# Altium footprint library ICs.PcbLib: 35 footprints (part 1 of 3)
Each footprint in its own frame and in the unit in brackets; x right, y up, seen from the top. Pads: shape width x height; smd on the part's side, far side on the other; paste and mask are expansions set on the pad; w line width, h text height; cw(c..) or ccw(c..) is an arc to the next point about the centre after c.
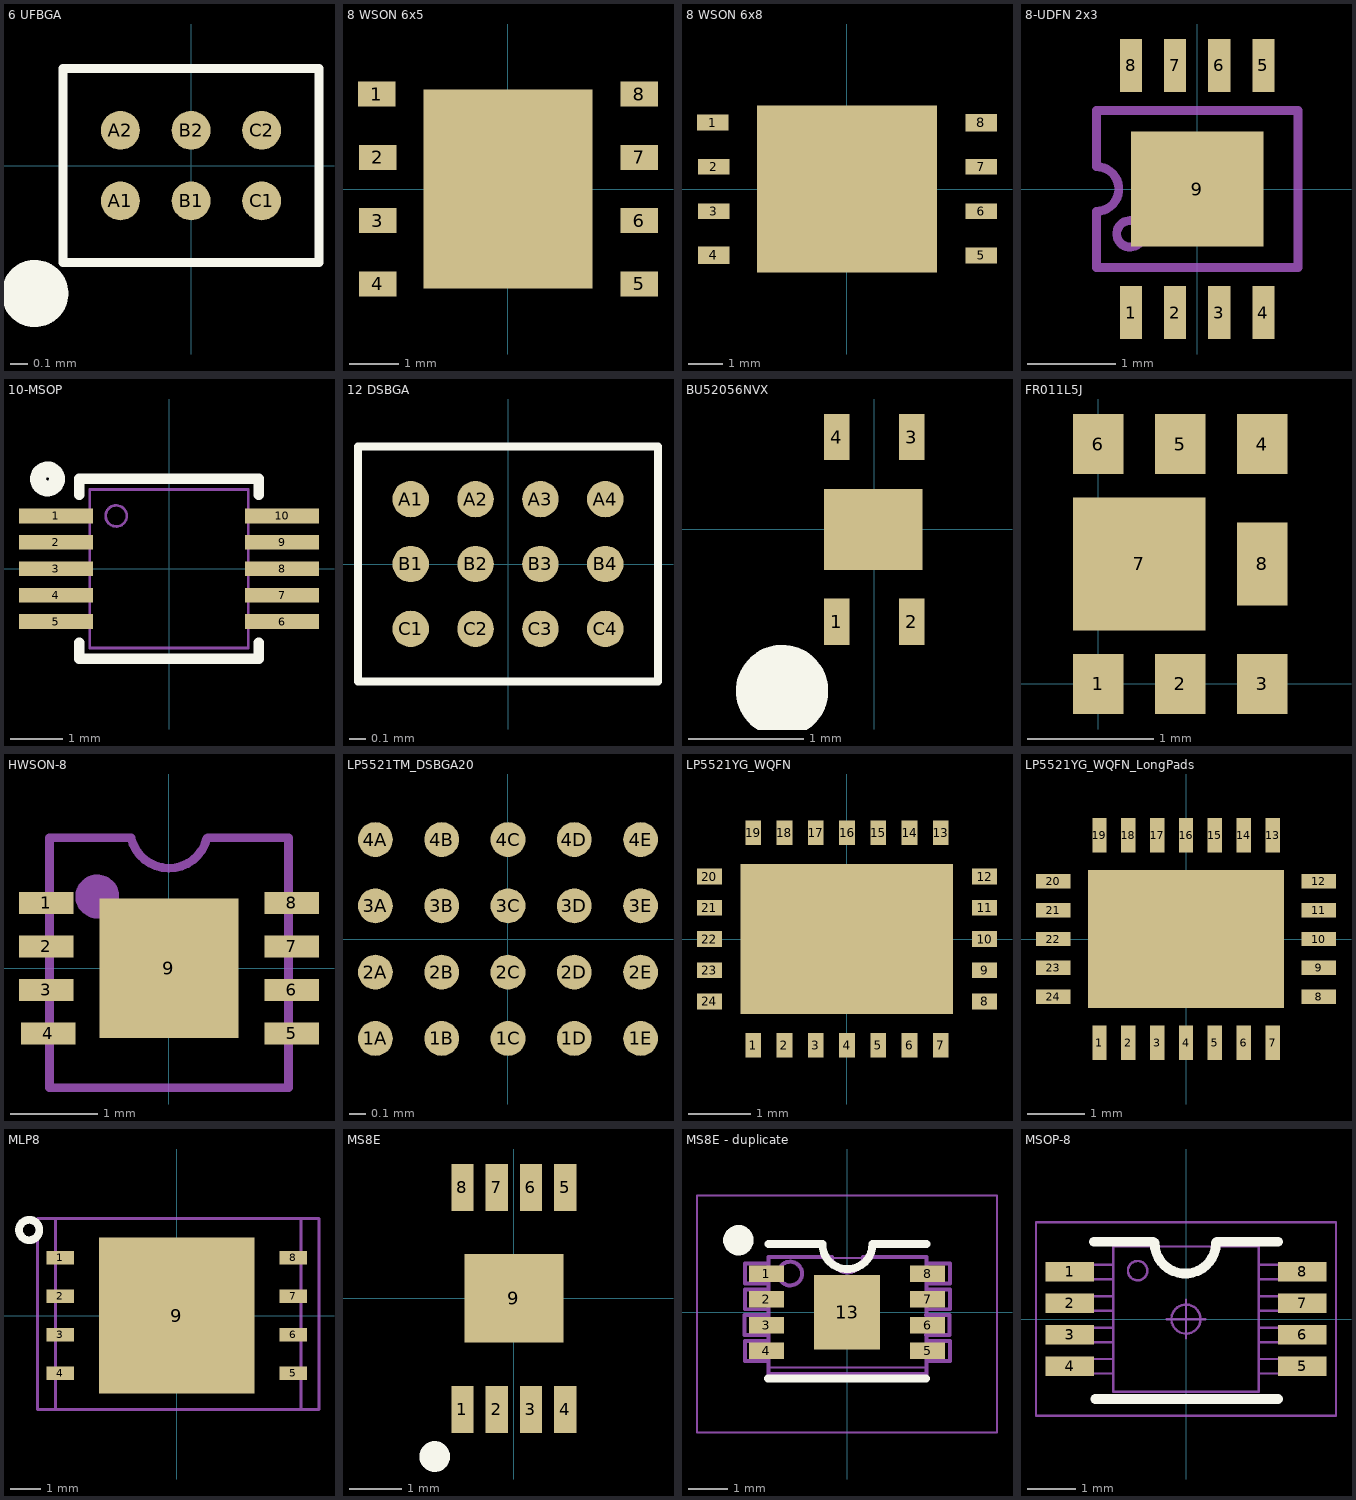
[diagram p0: the footprints below, top view; thin cyan lines are the x and y axes]

## 6 UFBGA [mm]
pads (6):
  round 0.22 smd mask+0.03: A1(-0.4,-0.2) A2(-0.4,0.2) B1(0,-0.2) B2(0,0.2) C1(0.4,-0.2) C2(0.4,0.2)
Top Overlay:
  circle w0.2: c-0.885,-0.725 r0.09
  lines w0.051: -0.725,-0.55 -0.725,0.55 0.725,0.55 0.725,-0.55 -0.725,-0.55
3D body: height 0.4, standoff 0, extent -0.725,-0.55 0.725,0.55

## 8 WSON 6x5 [mm]
pads (9):
  rect 0.75x0.5 smd mask+0.03: 1(-2.637,1.905) 2(-2.612,0.635) 3(-2.612,-0.635) 4(-2.612,-1.905) 5(2.638,-1.905) 6(2.638,-0.635) 7(2.638,0.635) 8(2.638,1.905)
  rect 3.4x4 smd mask+0.03: ""(0,0)
3D body: height 0.75, standoff 0, extent -3,-2.5 3,2.5

## 8 WSON 6x8 [mm]
pads (9):
  rect 0.9x0.45 smd mask+0.03: 1(-3.85,1.905) 2(-3.825,0.635) 3(-3.825,-0.635) 5(3.85,-1.905) 6(3.85,-0.635) 7(3.85,0.635)
  rect 0.9x0.5 smd mask+0.03: 4(-3.825,-1.905) 8(3.85,1.905)
  rect 5.15x4.8 smd mask+0.03: ""(0,0)
3D body: height 0.85, standoff 0, extent -4,-3 4,3

## 8-UDFN 2x3 [mm] "JEDEC MO-229"
pads (9):
  rect 0.25x0.6 smd mask+0.051: 1(-0.75,-1.4) 2(-0.25,-1.4) 3(0.25,-1.4) 4(0.75,-1.4) 5(0.75,1.4) 6(0.25,1.4) 7(-0.25,1.4) 8(-0.75,1.4)
  rect 1.5x1.3 smd mask+0.051: 9(0,0)
Mechanical 7:
  circle w0.1: c-0.762,-0.508 r0.15
  lines w0.1: -1.143,-0.889 1.143,-0.889 1.143,0.889 -1.143,0.889 -1.143,0.254 cw(c-1.143,0) -1.143,-0.254 -1.143,-0.889
  text ".Designator" at -0.508,-0.254 h1.5
3D body: height 0.55, standoff 0, extent -1,-1.5 1,1.5

## 10-MSOP [mm]
height 0.95
pads (10):
  rect 1.4x0.28 smd paste-0.025 mask+0.025: 1(-2.14,1) 2(-2.14,0.5) 3(-2.14,0) 4(-2.14,-0.5) 5(-2.14,-1) 6(2.14,-1) 7(2.14,-0.5) 8(2.14,0) 9(2.14,0.5) 10(2.14,1)
Top Overlay:
  circle w0.3: c-2.3,1.7 r0.18
  lines w0.2: -1.7,-1.4 -1.7,-1.7 1.7,-1.7 1.7,-1.4 ; -1.7,1.4 -1.7,1.7 1.7,1.7 1.7,1.4
Mechanical 7:
  circle w0.05: c-1,1 r0.2
  lines w0.05: -1.5,-1.1 -2.5,-1.1 -2.5,-0.9 -1.5,-0.9 ; -1.5,-0.6 -2.5,-0.6 -2.5,-0.4 -1.5,-0.4 ; -1.5,-0.1 -2.5,-0.1 -2.5,0.1 -1.5,0.1 ; -1.5,0.4 -2.5,0.4 -2.5,0.6 -1.5,0.6 ; -1.5,0.9 -2.5,0.9 -2.5,1.1 -1.5,1.1 ; 1.5,-1.1 2.5,-1.1 2.5,-0.9 1.5,-0.9 ; 1.5,-0.6 2.5,-0.6 2.5,-0.4 1.5,-0.4 ; 1.5,-0.1 2.5,-0.1 2.5,0.1 1.5,0.1 ; 1.5,0.4 2.5,0.4 2.5,0.6 1.5,0.6 ; 1.5,0.9 2.5,0.9 2.5,1.1 1.5,1.1 ; -1.5,-1.5 1.5,-1.5 1.5,1.5 -1.5,1.5 -1.5,-1.5
  text ".Designator" at -0.6,0.8 h1.8
3D body: height 0.95, standoff 0, extent -1.5,-1.5 1.5,1.5

## 12 DSBGA [mm]
pads (12):
  round 0.225 smd mask+0.03: A1(-0.6,0.4) A2(-0.2,0.4) A3(0.2,0.4) A4(0.6,0.4) B1(-0.6,0) B2(-0.2,0) B3(0.2,0) B4(0.6,0) C1(-0.6,-0.4) C2(-0.2,-0.4) C3(0.2,-0.4) C4(0.6,-0.4)
Top Overlay:
  lines w0.051: -0.925,-0.725 0.925,-0.725 0.925,0.725 -0.925,0.725 -0.925,-0.725
3D body: height 0.67, standoff 0, extent -0.825,-0.625 0.825,0.625

## BU52056NVX [mm] "Rohm hall effect sensor"
pads (5):
  rect 0.22x0.4 smd mask+0.051: 1(-0.325,-0.8) 2(0.325,-0.8) 3(0.325,0.8) 4(-0.325,0.8)
  rect 0.85x0.7 smd mask+0.051: ""(-0.01,0)
Top Overlay:
  circle w0.4: c-0.8,-1.4 r0.2
3D body: height 0.5, standoff 0, extent -0.6,-0.8 0.6,0.8

## FR011L5J [mm]
pads (8):
  rect 0.4x0.475 smd mask+0.051: 1(0,0) 2(0.65,0) 3(1.3,0) 4(1.3,1.9) 5(0.65,1.9) 6(0,1.9)
  rect 1.05x1.05 smd mask+0.051: 7(0.325,0.95)
  rect 0.4x0.66 smd mask+0.051: 8(1.3,0.95)
3D body: height 0.75, standoff 0, extent -0.35,-0.05 1.65,1.95

## HWSON-8 [mm] "SOT1069-2"
pads (9):
  rect 0.625x0.25 smd mask+0.051: 1(-1.412,0.75) 2(-1.412,0.25) 3(-1.412,-0.25) 4(-1.387,-0.75) 5(1.413,-0.75) 6(1.413,-0.25) 7(1.413,0.25) 8(1.413,0.75)
  rect 1.6x1.6 smd mask+0.051: 9(0,0)
Mechanical 7:
  circle w0.254: c-0.825,0.825 r0.125
  lines w0.1: 0.435,1.491 cw(c0,1.598) -0.437,1.5 -1.375,1.5 -1.375,-1.375 1.375,-1.375 1.375,1.5 0.444,1.5
  text ".Designator" at -0.375,0.95 h1.5
3D body: height 0.75, standoff 0, extent -1.5,-1 1.5,1

## LP5521TM_DSBGA20 [mm]
pads (20):
  round 0.21 smd mask+0.03: 1A(-0.8,-0.6) 1B(-0.4,-0.6) 1C(0,-0.6) 1D(0.4,-0.6) 1E(0.8,-0.6) 2A(-0.8,-0.2) 2B(-0.4,-0.2) 2C(0,-0.2) 2D(0.4,-0.2) 2E(0.8,-0.2) 3A(-0.8,0.2) 3B(-0.4,0.2) 3C(0,0.2) 3D(0.4,0.2) 3E(0.8,0.2) 4A(-0.8,0.6) 4B(-0.4,0.6) 4C(0,0.6) 4D(0.4,0.6) 4E(0.8,0.6)
3D body: height 0.6, standoff 0, extent -1.05,-0.85 1.05,0.85

## LP5521YG_WQFN [mm]
pads (25):
  rect 0.25x0.4 smd mask+0.03: 1(-1.5,-1.7) 2(-1,-1.7) 3(-0.5,-1.7) 4(0,-1.7) 5(0.5,-1.7) 6(1,-1.7) 7(1.5,-1.7) 13(1.5,1.7) 14(1,1.7) 15(0.5,1.7) 16(0,1.7) 17(-0.5,1.7) 18(-1,1.7) 19(-1.5,1.7)
  rect 0.4x0.25 smd mask+0.03: 8(2.2,-1) 9(2.2,-0.5) 10(2.2,0) 11(2.2,0.5) 12(2.2,1) 20(-2.2,1) 21(-2.2,0.5) 22(-2.2,0) 23(-2.2,-0.5) 24(-2.2,-1)
  rect 3.4x2.4 smd mask+0.03: ""(0,0)
3D body: height 0.8, standoff 0, extent -2.5,-2 2.5,2

## LP5521YG_WQFN_LongPads [mm]
pads (25):
  rect 0.25x0.6 smd mask+0.03: 1(-1.5,-1.8) 2(-1,-1.8) 3(-0.5,-1.8) 4(0,-1.8) 5(0.5,-1.8) 6(1,-1.8) 7(1.5,-1.8) 13(1.5,1.8) 14(1,1.8) 15(0.5,1.8) 16(0,1.8) 17(-0.5,1.8) 18(-1,1.8) 19(-1.5,1.8)
  rect 0.6x0.25 smd mask+0.03: 8(2.3,-1) 9(2.3,-0.5) 10(2.3,0) 11(2.3,0.5) 12(2.3,1) 20(-2.3,1) 21(-2.3,0.5) 22(-2.3,0) 23(-2.3,-0.5) 24(-2.3,-1)
  rect 3.4x2.4 smd mask+0.03: ""(0,0)
3D body: height 0.8, standoff 0, extent -2.5,-2 2.5,2

## MLP8 [mm]
pads (9):
  rect 0.9x0.45 smd: 1(-3.85,1.905) 2(-3.85,0.635) 3(-3.85,-0.635) 4(-3.85,-1.905) 5(3.85,-1.905) 6(3.85,-0.635) 7(3.85,0.635) 8(3.85,1.905)
  rect 5.15x5.15 smd: 9(0,0)
Top Overlay:
  circle w0.254: c-4.875,2.825 r0.336
Mechanical 2:
  lines w0.1: -4,-3.1 4.1,-3.1 4.1,3.2 -4,3.2 -4,-3.1
Mechanical 4:
  lines w0.1: -4.6,-3.1 4.7,-3.1 4.7,3.2 -4.6,3.2 -4.6,-3.1
Mechanical 7:
  lines w0.1: -4,-3.1 -4,3.2 4.1,3.2 4.1,-3.1 -4,-3.1
  text ".Designator" at 0.225,-4.175 h1.8
3D body: height 0.85, standoff 0, extent -4,-3 4,3

## MS8E [mm] "8 Lead Plastic MSOP Exposer Die Pad"
pads (9):
  rect 0.42x0.89 smd mask+0.03: 1(-0.975,-2.105) 2(-0.325,-2.105) 3(0.325,-2.105) 4(0.975,-2.105) 5(0.975,2.105) 6(0.325,2.105) 7(-0.325,2.105) 8(-0.975,2.105)
  rect 1.88x1.68 smd mask+0.03: 9(0,0)
Top Overlay:
  circle w0.3: c-1.5,-3 r0.141
3D body: height 1.1, standoff 0, extent -1.5,-1.5 1.5,1.5

## MS8E - duplicate [mm] "8-Lead Plastic MSOP"
pads (9):
  rect 0.889x0.42 smd mask+0.051: 1(-2.044,0.975) 2(-2.044,0.325) 3(-2.044,-0.325) 4(-2.044,-0.975) 5(2.044,-0.975) 6(2.044,-0.325) 7(2.044,0.325) 8(2.044,0.975)
  rect 1.68x1.88 smd mask+0.051: 13(0,0)
Top Overlay:
  circle w0.381: c-2.75,1.825 r0.195
  lines w0.2: -2,-1.675 2,-1.675 ; -1.989,1.725 -0.624,1.725 ccw(c0.011,1.725) 0.646,1.725 2.011,1.725
Mechanical 2:
  lines w0.05: -2,-1.225 -2.6,-1.225 -2.6,-0.725 -2,-0.725 ; -2,-0.575 -2.6,-0.575 -2.6,-0.075 -2,-0.075 ; -2,1.375 2,1.375 ; -1.989,-1.4 -1.989,1.375 ; -1.989,0.085 -2.589,0.085 -2.589,0.585 -1.989,0.585 ; -1.989,0.73 -2.589,0.73 -2.589,1.23 -1.989,1.23 ; -1.975,-1.4 2.025,-1.4 ; -0.389,1.38 ccw(c0.011,1.38) 0.411,1.38 ; 2,-1.225 2.6,-1.225 2.6,-0.725 2,-0.725 ; 2,-0.575 2.6,-0.575 2.6,-0.075 2,-0.075 ; 2.011,-1.4 2.011,1.375 ; 2.011,0.085 2.611,0.085 2.611,0.585 2.011,0.585 ; 2.011,0.73 2.611,0.73 2.611,1.23 2.011,1.23
Mechanical 4:
  circle w0.1: c0,0 r0.35
  lines w0.05: -3.8,-3.045 -3.8,2.955 3.8,2.955 3.8,-3.045 -3.8,-3.045
  lines w0.1: -0.55,0 0.55,0 ; 0,-0.575 0,0.575
Mechanical 7:
  circle w0.1: c-1.439,0.98 r0.3
  lines w0.1: -2,-0.575 -2.6,-0.575 -2.6,-0.075 -2,-0.075 ; -1.989,-1.23 -2.589,-1.23 -2.589,-0.73 -1.989,-0.73 ; -1.989,0.075 -2.589,0.075 -2.589,0.575 -1.989,0.575 ; -1.989,0.73 -2.589,0.73 -2.589,1.23 -1.989,1.23 ; -0.389,1.405 ccw(c0.011,1.405) 0.411,1.405 2.011,1.405 2.011,-1.57 -1.989,-1.57 -1.989,1.405 -0.381,1.405 ; 2,-0.575 2.6,-0.575 2.6,-0.075 2,-0.075 ; 2.011,-1.23 2.611,-1.23 2.611,-0.73 2.011,-0.73 ; 2.011,0.075 2.611,0.075 2.611,0.575 2.011,0.575 ; 2.011,0.73 2.611,0.73 2.611,1.23 2.011,1.23
  text ".Designator" at 0.15,-1.75 h0.75
3D body: height 1.1, standoff 0, extent -1.5,-1.5 1.5,1.5

## MSOP-8 [mm]
height 1
pads (8):
  rect 1x0.4 smd: 1(-2.4,0.975) 2(-2.4,0.325) 3(-2.4,-0.325) 4(-2.4,-0.975) 5(2.4,-0.975) 6(2.4,-0.325) 7(2.4,0.325) 8(2.4,0.975)
Top Overlay:
  lines w0.2: -1.9,1.6 -0.675,1.6 ; -1.875,-1.65 1.9,-1.65 ; -0.65,1.575 ccw(c-0.015,1.575) 0.62,1.575 ; 0.635,1.6 1.9,1.6
Mechanical 2:
  circle w0.05: c-1,1 r0.2
  lines w0.05: -1.5,-1.125 -2.45,-1.125 -2.45,-0.825 -1.5,-0.825 ; -1.5,-0.475 -2.45,-0.475 -2.45,-0.175 -1.5,-0.175 ; -1.5,0.175 -2.45,0.175 -2.45,0.475 -1.5,0.475 ; -1.5,0.825 -2.45,0.825 -2.45,1.125 -1.5,1.125 ; 1.5,-1.125 2.45,-1.125 2.45,-0.825 1.5,-0.825 ; 1.5,-0.475 2.45,-0.475 2.45,-0.175 1.5,-0.175 ; 1.5,0.175 2.45,0.175 2.45,0.475 1.5,0.475 ; 1.5,0.825 2.45,0.825 2.45,1.125 1.5,1.125 ; -1.5,-1.5 1.5,-1.5 1.5,1.5 -1.5,1.5 -1.5,-1.5
Mechanical 4:
  circle w0.05: c0,0 r0.3
  lines w0.05: -0.4,0 0.4,0 ; 0,-0.4 0,0.4 ; -3.1,-2 3.1,-2 3.1,2 -3.1,2 -3.1,-2
Mechanical 7:
  circle w0.05: c-1,1 r0.2
  lines w0.05: -1.5,-1.125 -2.45,-1.125 -2.45,-0.825 -1.5,-0.825 ; -1.5,-0.475 -2.45,-0.475 -2.45,-0.175 -1.5,-0.175 ; -1.5,0.175 -2.45,0.175 -2.45,0.475 -1.5,0.475 ; -1.5,0.825 -2.45,0.825 -2.45,1.125 -1.5,1.125 ; 1.5,-1.125 2.45,-1.125 2.45,-0.825 1.5,-0.825 ; 1.5,-0.475 2.45,-0.475 2.45,-0.175 1.5,-0.175 ; 1.5,0.175 2.45,0.175 2.45,0.475 1.5,0.475 ; 1.5,0.825 2.45,0.825 2.45,1.125 1.5,1.125 ; -1.5,-1.5 -1.5,1.5 1.5,1.5 1.5,-1.5 -1.5,-1.5
  text ".Designator" at 0.525,-1.475 h1.8
3D body "MSOP-8.STEP": height 1.1, standoff 0, extent -2.45,-1.5 2.45,1.5